# Altium schematic symbol library Symbols.SchLib: 47 symbols
Pins are listed as number, name and electrical type; pins without a type are passive.

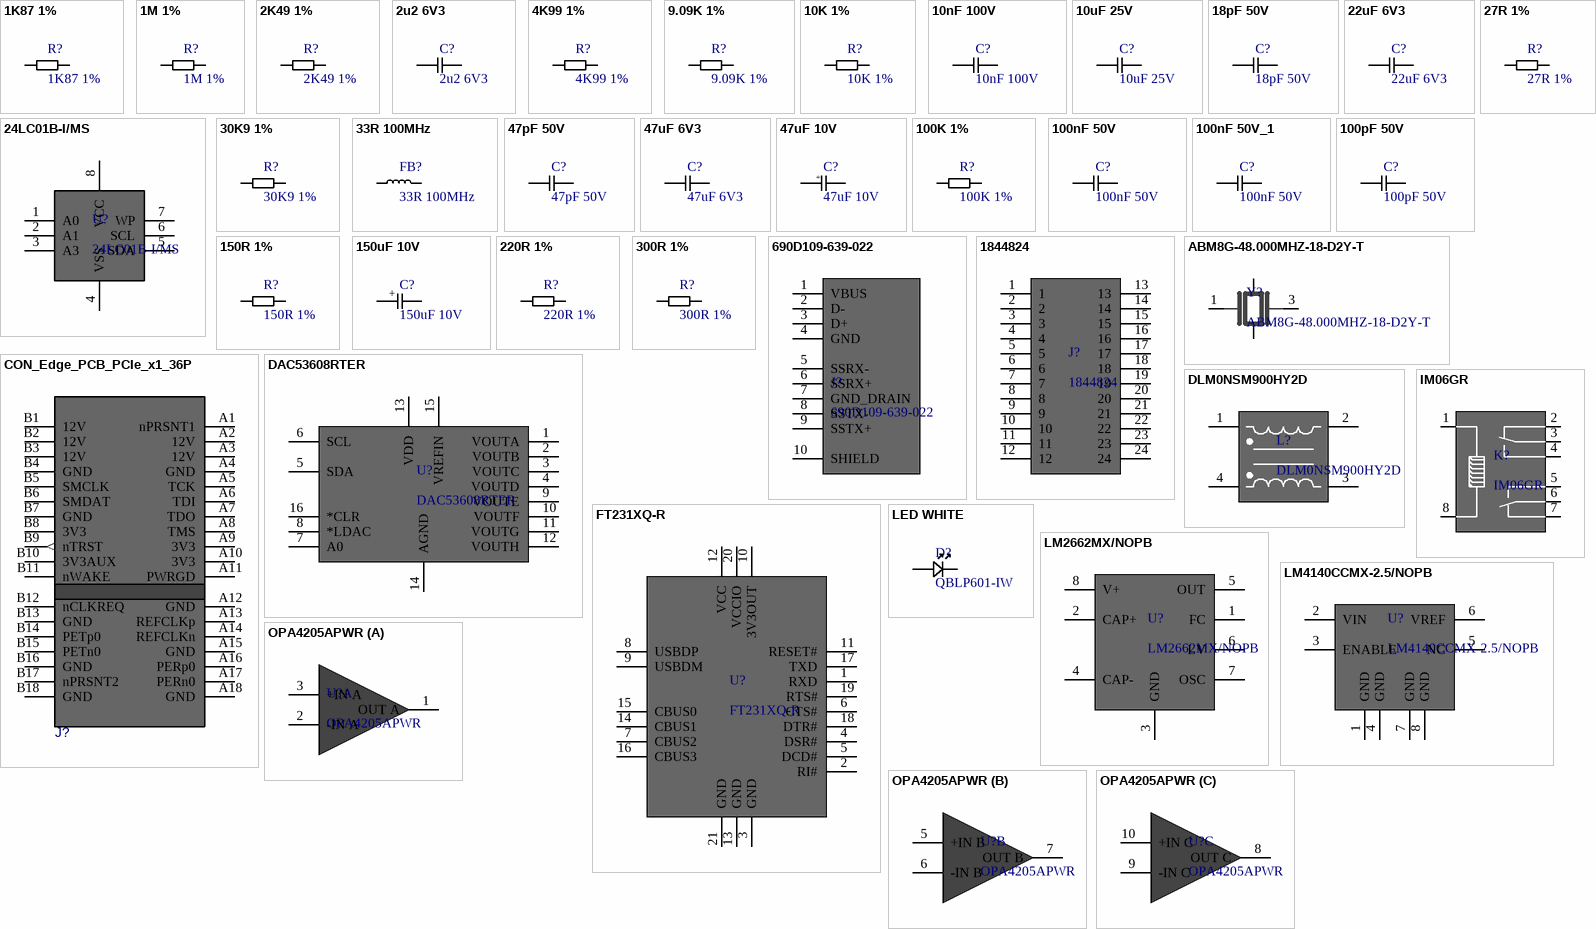
[diagram p0: symbols 1K87 1% to OPA4205APWR]

## 1K87 1%
designator R?
1.87 kOhms ±1% 0.1W, 1/10W Chip Resistor 0603 (1608 Metric) Moisture Resistant Thick Film; MPN: RC0603FR-071K87L
footprint RESC1608X06N (Chip Resistor, 2-Leads, Body 1.60x0.80mm, IPC Medium Density)
pins: 1, 2

## 1M 1%
designator R?
RES SMD 1M OHM 1% 1/10W 0603; MPN: ERJ-3EKF1004V
footprint RESC1608X06N (Chip Resistor, 2-Leads, Body 1.60x0.80mm, IPC Medium Density)
pins: 1, 2

## 2K49 1%
designator R?
2.49 kOhms ±1% 0.1W, 1/10W Chip Resistor 0603 (1608 Metric) Automotive AEC-Q200 Thick Film; MPN: RMCF0603FT2K49
footprint RESC1608X06N (Chip Resistor, 2-Leads, Body 1.60x0.80mm, IPC Medium Density)
pins: 1, 2

## 2u2 6V3
designator C?
2.2 µF ±10% 6.3V Ceramic Capacitor X7R 0603 (1608 Metric); MPN: GCM188R70J225KE22D
footprint CAPC1608X06N (Chip Capacitor, 2-Leads, Body 1.60x0.80mm, IPC Medium Density)
pins: 1, 2

## 4K99 1%
designator R?
4.99 kOhms ±1% 0.1W, 1/10W Chip Resistor 0603 (1608 Metric) Moisture Resistant Thick Film; MPN: RC0603FR-074K99L
footprint RESC1608X06N (Chip Resistor, 2-Leads, Body 1.60x0.80mm, IPC Medium Density)
pins: 1, 2

## 9.09K 1%
designator R?
9.09 kOhms ±1% 0.1W, 1/10W Chip Resistor 0603 (1608 Metric) Automotive AEC-Q200 Thick Film; MPN: ERJ-3EKF9091V
footprint RESC1608X06N (Chip Resistor, 2-Leads, Body 1.60x0.80mm, IPC Medium Density)
pins: 1, 2

## 10K 1%
designator R?
10 kOhms ±1% 0.1W, 1/10W Chip Resistor 0603 (1608 Metric) Automotive AEC-Q200 Thick Film; MPN: ERJ-3EKF1002V
footprint RESC1608X06N (Chip Resistor, 2-Leads, Body 1.60x0.80mm, IPC Medium Density)
pins: 1, 2

## 10nF 100V
designator C?
10000 pF ±10% 100V Ceramic Capacitor X7R 0603 (1608 Metric); MPN: GCM188R72A103KA37D
footprint CAPC1608X06N (Chip Capacitor, 2-Leads, Body 1.60x0.80mm, IPC Medium Density)
pins: 1, 2

## 10uF 25V
designator C?
10 µF ±20% 25V Ceramic Capacitor X5R 0603 (1608 Metric); MPN: GRM188R61E106MA73D
footprint CAPC1608X06N (Chip Capacitor, 2-Leads, Body 1.60x0.80mm, IPC Medium Density)
pins: 1, 2

## 18pF 50V
designator C?
CAP CER 18PF 50V C0G/NP0 0603; MPN: GRM1885C1H180JA01D
footprint CAPC1608X06N (Chip Capacitor, 2-Leads, Body 1.60x0.80mm, IPC Medium Density)
pins: 1, 2

## 22uF 6V3
designator C?
22 µF ±20% 6.3V Ceramic Capacitor X5R 0603 (1608 Metric); MPN: GRM188R60J226MEA0D
footprint CAPC1608X06N (Chip Capacitor, 2-Leads, Body 1.60x0.80mm, IPC Medium Density)
pins: 1, 2

## 24LC01B-I/MS
designator U?
EEPROM Memory IC 1Kbit I2C 400 kHz 3.5 µs 8-MSOP; MPN: 24LC01B-I/MS
footprint SOP65P490X110-8N
pins: 1 A0, 2 A1, 3 A3, 4 VSS, 5 SDA, 6 SCL, 7 WP, 8 VCC

## 27R 1%
designator R?
27 Ohms ±1% 0.1W, 1/10W Chip Resistor 0603 (1608 Metric) Moisture Resistant Thick Film; MPN: RC0603FR-0727RL
footprint RESC1608X06N (Chip Resistor, 2-Leads, Body 1.60x0.80mm, IPC Medium Density)
pins: 1, 2

## 30K9 1%
designator R?
30.9 kOhms ±1% 0.1W, 1/10W Chip Resistor 0603 (1608 Metric) Automotive AEC-Q200 Thick Film; MPN: ERJ-3EKF3092V
footprint RESC1608X06N (Chip Resistor, 2-Leads, Body 1.60x0.80mm, IPC Medium Density)
pins: 1, 2

## 33R 100MHz
designator FB?
33 Ohms @ 100 MHz 1 Power Line Ferrite Bead 0603 (1608 Metric) 3A 25mOhm; MPN: BLM18PG330SN1D
footprint INDC1608X06N (Chip Inductor, 2-Leads, Body 1.60x0.80mm, IPC Medium Density)
pins: 1, 2

## 47pF 50V
designator C?
47 pF ±5% 50V Ceramic Capacitor C0G, NP0 0603 (1608 Metric); MPN: CL10C470JB8NNNC
footprint CAPC1608X06N (Chip Capacitor, 2-Leads, Body 1.60x0.80mm, IPC Medium Density)
pins: 1, 2

## 47uF 6V3
designator C?
10 µF ±20% 25V Ceramic Capacitor X5R 0603 (1608 Metric); MPN: GRM188R60J476ME15D
footprint CAPC1608X06N (Chip Capacitor, 2-Leads, Body 1.60x0.80mm, IPC Medium Density)
pins: 1, 2

## 47uF 10V
designator C?
47 µF Molded Tantalum Capacitors 10 V 1411 (3528 Metric) 1.8Ohm; MPN: 293D476X9010B2TE3
footprint 293D476X9010B2TE3
pins: 1, 2
text: +

## 100K 1%
designator R?
100 kOhms ±1% 0.1W, 1/10W Chip Resistor 0603 (1608 Metric) Moisture Resistant Thick Film; MPN: RC0603FR-07100KL
footprint RESC1608X06N (Chip Resistor, 2-Leads, Body 1.60x0.80mm, IPC Medium Density)
pins: 1, 2

## 100nF 50V
designator C?
0.1 µF ±10% 50V Ceramic Capacitor X7R 0603 (1608 Metric); MPN: GCM188R71H104KA57D
footprint CAPC1608X06N (Chip Capacitor, 2-Leads, Body 1.60x0.80mm, IPC Medium Density)
pins: 1, 2

## 100nF 50V_1
designator C?, comment 100nF 50V
0.1 µF ±10% 16V Ceramic Capacitor X7R 0402 (1005 Metric); MPN: GRM155R71C104KA88J
footprint CAPC1005X06N (Chip Capacitor, 2-Leads, Body 1.00x0.50mm, IPC Medium Density)
pins: 1, 2

## 100pF 50V
designator C?
100 pF ±10% 50V Ceramic Capacitor C0G, NP0 0603 (1608 Metric); MPN: KGM15ACG1H101KT
footprint CAPC1608X06N (Chip Capacitor, 2-Leads, Body 1.60x0.80mm, IPC Medium Density)
pins: 1, 2

## 150R 1%
designator R?
150 Ohms ±1% 0.1W, 1/10W Chip Resistor 0603 (1608 Metric) Automotive AEC-Q200 Thick Film; MPN: ERJ-3EKF1500V
footprint RESC1608X06N (Chip Resistor, 2-Leads, Body 1.60x0.80mm, IPC Medium Density)
pins: 1, 2

## 150uF 10V
designator C?
150 µF 10 V Aluminum - Polymer Capacitors Radial, Can - SMD 30mOhm 2000 Hrs @ 105°C; MPN: 875105244011
footprint CAP66x66x58
pins: 1, 2
text: +

## 220R 1%
designator R?
220 Ohms ±1% 0.1W, 1/10W Chip Resistor 0603 (1608 Metric) Automotive AEC-Q200 Thick Film; MPN: ERJ-3EKF2200V
footprint RESC1608X06N (Chip Resistor, 2-Leads, Body 1.60x0.80mm, IPC Medium Density)
pins: 1, 2

## 300R 1%
designator R?
300 Ohms ±1% 0.1W, 1/10W Chip Resistor 0603 (1608 Metric) Automotive AEC-Q200 Thick Film; MPN: ERJ-3EKF3000V
footprint RESC1608X06N (Chip Resistor, 2-Leads, Body 1.60x0.80mm, IPC Medium Density)
pins: 1, 2

## 690D109-639-022
designator J?
USB-A (USB TYPE-A) USB 3.0 Receptacle Connector 9 Position Through Hole, Right Angle; MPN: 690D109-639-022
footprint 690D109-639-022
pins: 1 VBUS, 2 D-, 3 D+, 4 GND, 5 SSRX-, 6 SSRX+, 7 GND_DRAIN, 8 SSTX-, 9 SSTX+, 10 SHIELD

## 1844824
designator J?
24 Position Terminal Block Header, Male Pins, Shrouded (4 Side) 0.100" (2.54mm) 90°, Right Angle Through Hole; MPN: 1844824
footprint PHOENIX_1844824
pins: 1, 2, 3, 4, 5, 6, 7, 8, 9, 10, 11, 12, 13, 14, 15, 16, 17, 18, 19, 20, 21, 22, 23, 24

## ABM8G-48.000MHZ-18-D2Y-T
designator Y?
48 MHz ±20ppm Crystal 18pF 50 Ohms 4-SMD, No Lead; MPN: ABM8G-48.000MHZ-18-D2Y-T
footprint XTAL_ABM8G-48.000MHZ-18-D2Y-T
pins: 1, 2 GND (power), 3 2, 4 GND (power)

## CON_Edge_PCB_PCIe_x1_36P
designator J?, comment PCIe x1  (value not drawn)  (no BOM)
Connector, PCB Edge, plug 2x18 positions, 1.0mm pitch; ComponentLink1URL: http://nyusperforce.smsc.com//depot_np_hweng_boards/altium_libraries/datasheets/TE_Connectivity (Amp_Tyco)/ENG_CD_5179031_A4.pdfHirose/DF12_catalog.pdf
footprint CON FINGERS PCIEx1 1mm 36P PCB
pins: A1 nPRSNT1 "nPRSTNT1", A2 12V (power) "1V2", A3 12V (power) "1V2", A4 GND (power), A5 TCK, A6 TDI, A7 TDO, A8 TMS, A9 3V3 (power), A10 3V3 (power), A11 PWRGD, A12 GND (power), A13 REFCLKp, A14 REFCLKn, A15 GND (power), A16 PERp0, A17 PERn0, A18 GND (power), B1 12V (power), B2 12V (power), B3 12V (power), B4 GND (power), B5 SMCLK, B6 SMDAT, B7 GND (power), B8 3V3 (power), B9 nTRST (out), B10 3V3AUX "3V3aux", B11 nWAKE, B12 nCLKREQ, B13 GND (power), B14 PETp0, B15 PETn0, B16 GND (power), B17 nPRSNT2, B18 GND (power)

## DAC53608RTER
designator U?
10 Bit Digital to Analog Converter 8 16-WQFN (3x3); MPN: DAC53608RTER
footprint QFN16P300X300
pins: 1 VOUTA, 2 VOUTB, 3 VOUTC, 4 VOUTD, 5 SDA, 6 SCL, 7 A0, 8 *LDAC, 9 VOUTE, 10 VOUTF, 11 VOUTG, 12 VOUTH, 13 VDD, 14 AGND, 15 VREFIN, 16 *CLR

## DLM0NSM900HY2D
designator L?
2 Line Common Mode Choke Surface Mount 90 Ohms @ 100 MHz 100mA DCR 4Ohm; MPN: DLM0NSM900HY2D
footprint DLM0NSM900HY2D
pins: 1, 2, 3, 4

## FT231XQ-R
designator U?
USB Bridge, USB to UART USB 2.0 UART Interface 20-QFN (4x4); MPN: FT231XQ-R
footprint QFN50P400X400X80-21N
pins: 1 RXD, 2 RI#, 3 GND, 4 DSR#, 5 DCD#, 6 CTS#, 7 CBUS2, 8 USBDP, 9 USBDM, 10 3V3OUT, 11 RESET#, 12 VCC, 13 GND, 14 CBUS1, 15 CBUS0, 16 CBUS3, 17 TXD, 18 DTR#, 19 RTS#, 20 VCCIO, 21 GND

## IM06GR
designator K?
Telecom Relay DPDT (2 Form C) Surface Mount; MPN: IM06GR
footprint IM06GR
pins: 1, 2, 3, 4, 5, 6, 7, 8

## LED WHITE
designator D?, comment QBLP601-IW
White LED Indication - Discrete 3.2V 0603 (1608 Metric); MPN: QBLP601-IW
footprint LEDC1608X06N (Chip LED, 2-Leads, Body 1.60x0.80mm, IPC Medium Density)
pins: 1, 2

## LM2662MX/NOPB
designator U?
Switching Voltage Regulators Switched Capacitor Vtg Cnvtr; MPN: LM2662MX/NOPB
footprint SOIC127P599X175-8N
pins: 1 FC, 2 CAP+, 3 GND, 4 CAP-, 5 OUT, 6 LV, 7 OSC, 8 V+

## LM4140CCMX-2.5/NOPB
designator U?
Series Voltage Reference IC Fixed 2.5V V ±0.1% 8 mA 8-SOIC; MPN: LM4140CCMX-2.5/NOPB
footprint SOIC127P599X175-8N
pins: 1 GND, 2 VIN, 3 ENABLE, 4 GND, 5 NC, 6 VREF, 7 GND, 8 GND

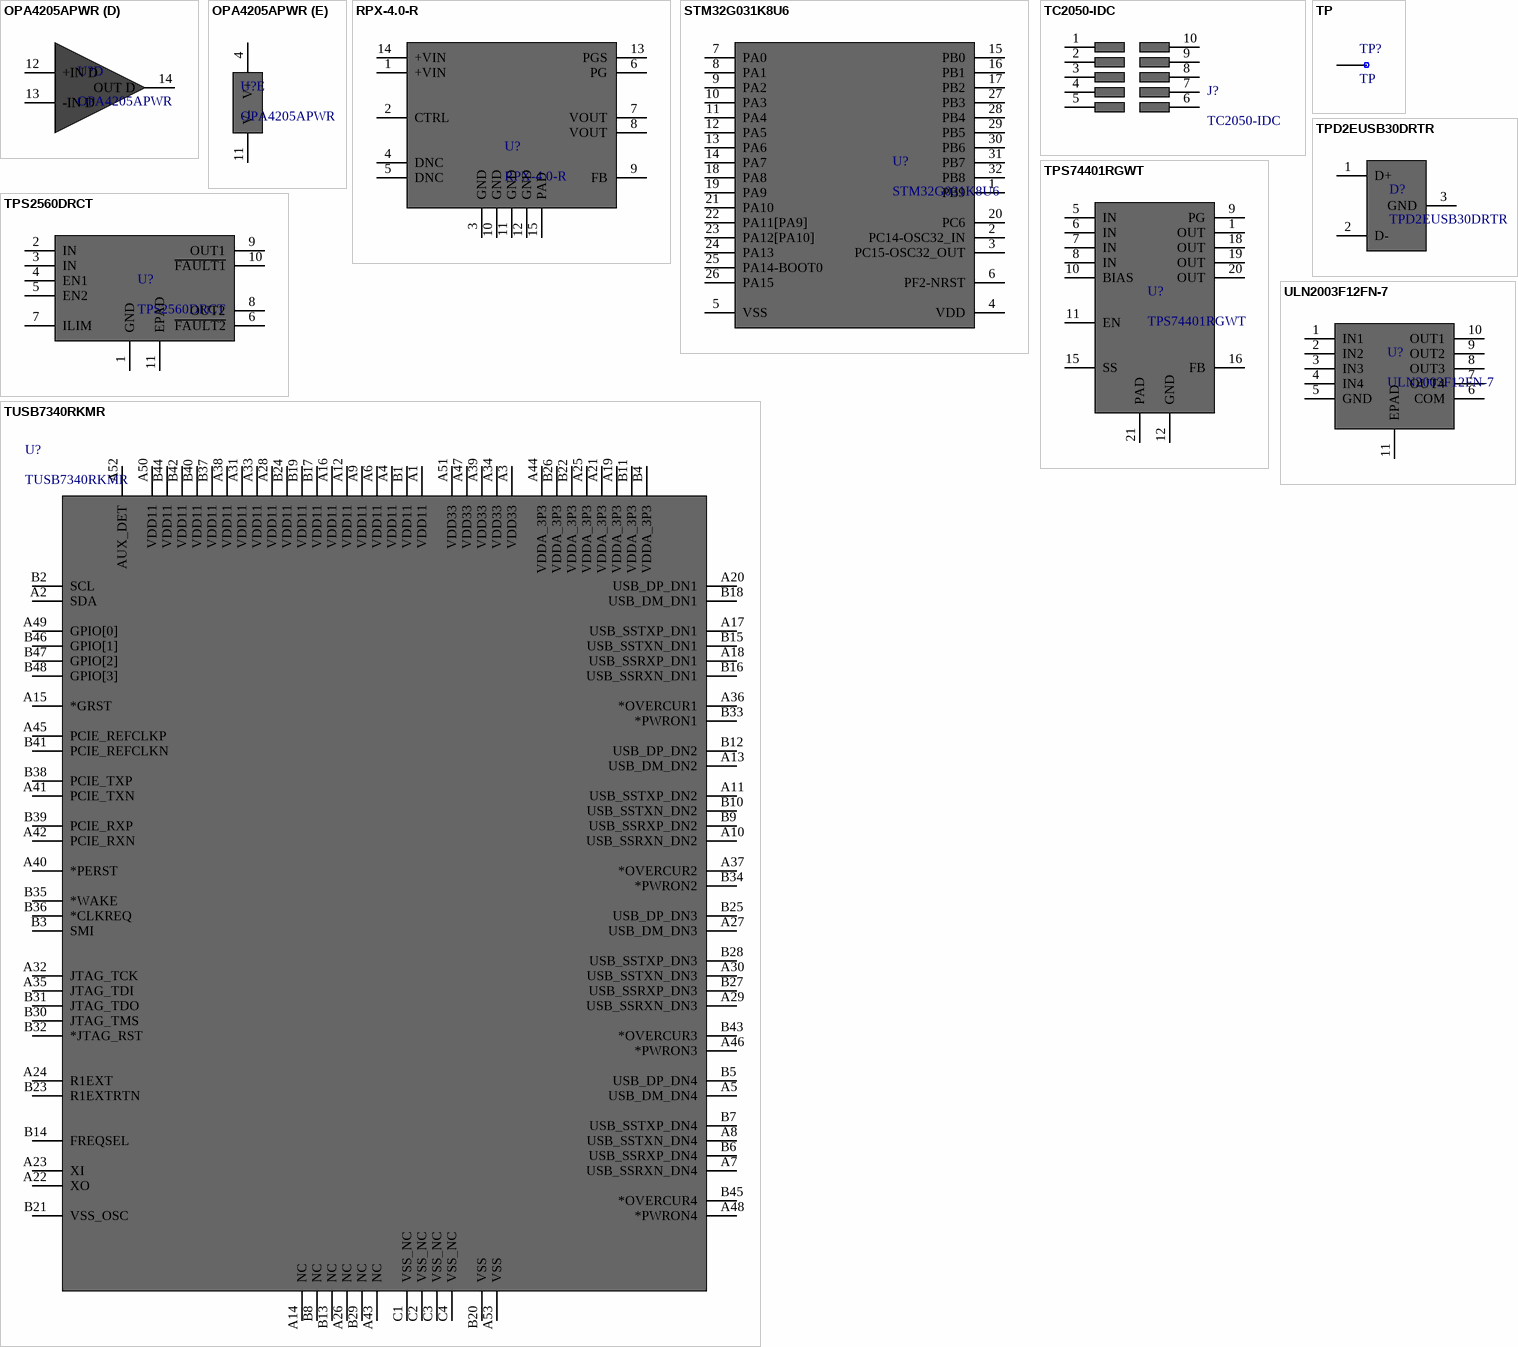
[diagram p1: symbols OPA4205APWR to ULN2003F12FN-7]

## OPA4205APWR
designator U?
General Purpose Amplifier 4 Circuit Push-Pull, Rail-to-Rail 14-TSSOP; MPN: OPA4205APWR
footprint TSSO14P440
part A pins: 1 OUT A, 2 -IN A, 3 +IN A
part B pins: 5 +IN B, 6 -IN B, 7 OUT B
part C pins: 8 OUT C, 9 -IN C, 10 +IN C
part D pins: 12 +IN D, 13 -IN D, 14 OUT D
part E pins: 4 V+ (power), 11 V- (power)

## RPX-4.0-R
designator U?
Non-Isolated PoL Module DC DC Converter 1 Output 1 ~ 7V 4A 3.8V - 36V Input; MPN: RPX-4.0-R
footprint REPC-4.0
pins: 1 +VIN, 2 CTRL, 3 GND, 4 DNC, 5 DNC, 6 PG, 7 VOUT, 8 VOUT, 9 FB, 10 GND, 11 GND, 12 GND, 13 PGS, 14 +VIN, 15 PAD

## STM32G031K8U6
designator U?
ARM® Cortex®-M0+ STM32G0 Microcontroller IC 32-Bit Single-Core 64MHz 64KB (64K x 8) FLASH 32-UFQFPN (5x5); MPN: STM32G031K8U6
footprint UQFP32P50X50
pins: 1 PB9, 2 PC14-OSC32_IN, 3 PC15-OSC32_OUT, 4 VDD, 5 VSS, 6 PF2-NRST, 7 PA0, 8 PA1, 9 PA2, 10 PA3, 11 PA4, 12 PA5, 13 PA6, 14 PA7, 15 PB0, 16 PB1, 17 PB2, 18 PA8, 19 PA9, 20 PC6, 21 PA10, 22 PA11[PA9], 23 PA12[PA10], 24 PA13, 25 PA14-BOOT0, 26 PA15, 27 PB3, 28 PB4, 29 PB5, 30 PB6, 31 PB7, 32 PB8

## TC2050-IDC
designator J?
MPN: TC2050-IDC
footprint TAG_CONNECT
pins: 1, 2, 3, 4, 5, 6, 7, 8, 9, 10

## TP
designator TP?  (no BOM)
footprint TP
pins: 1

## TPD2EUSB30DRTR
designator D?
8V Clamp 5A (8/20µs) Ipp Tvs Diode Surface Mount SOT-3; MPN: TPD2EUSB30DRTR
footprint SOTFL35P100X50-3N
pins: 1 D+, 2 D-, 3 GND

## TPS2560DRCT
designator U?
Power Switch/Driver 1:2 N-Channel 2.5A 10-VSON (3x3); MPN: TPS2560DRCT
footprint 10VSON
pins: 1 GND, 2 IN, 3 IN, 4 EN1, 5 EN2, 6 ~{FAULT2}, 7 ILIM, 8 OUT2, 9 OUT1, 10 ~{FAULT1}, 11 EPAD

## TPS74401RGWT
designator U?
Linear Voltage Regulator IC Positive Adjustable 1 Output 3A 20-VQFN (5x5); MPN: TPS74401RGWT
footprint QFN65P500X500X100-21N
pins: 1 OUT, 5 IN, 6 IN, 7 IN, 8 IN, 9 PG, 10 BIAS, 11 EN, 12 GND, 15 SS, 16 FB, 18 OUT, 19 OUT, 20 OUT, 21 PAD

## TUSB7340RKMR
designator U?
USB Host Controller USB 3.0 USB, PCIe Interface 100-WQFN-MR (9x9)
footprint 100-WQFN
pins: A1 VDD11, A2 SDA, A3 VDD33, A4 VDD11, A5 USB_DM_DN4, A6 VDD11, A7 USB_SSRXN_DN4, A8 USB_SSTXN_DN4, A9 VDD11, A10 USB_SSRXN_DN2, A11 USB_SSTXP_DN2, A12 VDD11, A13 USB_DM_DN2, A14 NC, A15 *GRST, A16 VDD11, A17 USB_SSTXP_DN1, A18 USB_SSRXP_DN1, A19 VDDA_3P3, A20 USB_DP_DN1, A21 VDDA_3P3, A22 XO, A23 XI, A24 R1EXT, A25 VDDA_3P3, A26 NC, A27 USB_DM_DN3, A28 VDD11, A29 USB_SSRXN_DN3, A30 USB_SSTXN_DN3, A31 VDD11, A32 JTAG_TCK, A33 VDD11, A34 VDD33, A35 JTAG_TDI, A36 *OVERCUR1, A37 *OVERCUR2, A38 VDD11, A39 VDD33, A40 *PERST, A41 PCIE_TXN, A42 PCIE_RXN, A43 NC, A44 VDDA_3P3, A45 PCIE_REFCLKP, A46 *PWRON3, A47 VDD33, A48 *PWRON4, A49 GPIO[0], A50 VDD11, A51 VDD33, A52 AUX_DET, A53 VSS, B1 VDD11, B2 SCL, B3 SMI, B4 VDDA_3P3, B5 USB_DP_DN4, B6 USB_SSRXP_DN4, B7 USB_SSTXP_DN4, B8 NC, B9 USB_SSRXP_DN2, B10 USB_SSTXN_DN2, B11 VDDA_3P3, B12 USB_DP_DN2, B13 NC, B14 FREQSEL, B15 USB_SSTXN_DN1, B16 USB_SSRXN_DN1, B17 VDD11, B18 USB_DM_DN1, B19 VDD11, B20 VSS, B21 VSS_OSC, B22 VDDA_3P3, B23 R1EXTRTN, B24 VDD11, B25 USB_DP_DN3, B26 VDDA_3P3, B27 USB_SSRXP_DN3, B28 USB_SSTXP_DN3, B29 NC, B30 JTAG_TMS, B31 JTAG_TDO, B32 *JTAG_RST, B33 *PWRON1, B34 *PWRON2, B35 *WAKE, B36 *CLKREQ, B37 VDD11, B38 PCIE_TXP, B39 PCIE_RXP, B40 VDD11, B41 PCIE_REFCLKN, B42 VDD11, B43 *OVERCUR3, B44 VDD11, B45 *OVERCUR4, B46 GPIO[1], B47 GPIO[2], B48 GPIO[3], C1 VSS_NC, C2 VSS_NC, C3 VSS_NC, C4 VSS_NC

## ULN2003F12FN-7
designator U?
Power Switch/Driver 1:1 Darlington 700mA U-DFN3030-10; MPN: ULN2003F12FN-7
footprint DFN3030
pins: 1 IN1, 2 IN2, 3 IN3, 4 IN4, 5 GND, 6 COM, 7 OUT4, 8 OUT3, 9 OUT2, 10 OUT1, 11 EPAD